# Altium footprint library HDR2.54-F-44P.PcbLib: 1 footprints
Each footprint in its own frame and in the unit in brackets; x right, y up, seen from the top. Pads: shape width x height; smd on the part's side, far side on the other; paste and mask are expansions set on the pad; w line width, h text height; cw(c..) or ccw(c..) is an arc to the next point about the centre after c.
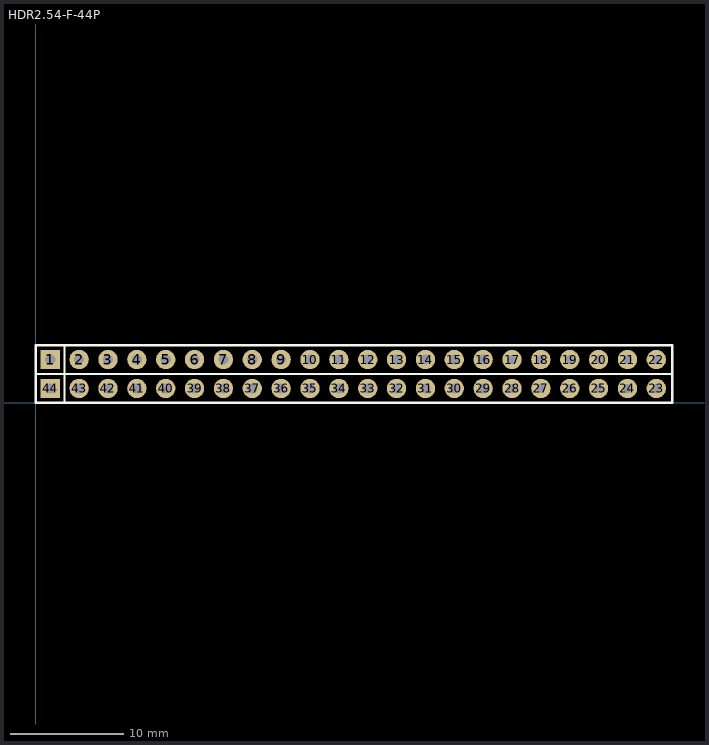
[diagram p0: the footprint, top view; thin cyan lines are the x and y axes]

## HDR2.54-F-44P [mm]
pads (44):
  rect 1.7x1.7 hole 0.9: 1(1.27,3.81) 44(1.27,1.27)
  round 1.7 hole 0.9: 2(3.81,3.81) 3(6.35,3.81) 4(8.89,3.81) 5(11.43,3.81) 6(13.97,3.81) 7(16.51,3.81) 8(19.05,3.81) 9(21.59,3.81) 10(24.13,3.81) 11(26.67,3.81) 12(29.21,3.81) 13(31.75,3.81) 14(34.29,3.81) 15(36.83,3.81) 16(39.37,3.81) 29(39.37,1.27) 30(36.83,1.27) 31(34.29,1.27) 32(31.75,1.27) 33(29.21,1.27) 34(26.67,1.27) 35(24.13,1.27) 36(21.59,1.27) 37(19.05,1.27) 38(16.51,1.27) 39(13.97,1.27) 40(11.43,1.27) 41(8.89,1.27) 42(6.35,1.27) 43(3.81,1.27)
  round 1.7 hole 0.762: 17(41.91,3.81) 18(44.45,3.81) 19(46.99,3.81) 20(49.53,3.81) 21(52.07,3.81) 22(54.61,3.81) 23(54.61,1.27) 24(52.07,1.27) 25(49.53,1.27) 26(46.99,1.27) 27(44.45,1.27) 28(41.91,1.27)
Top Overlay:
  lines w0.2: 2.52,0.02 2.52,2.52 ; 2.52,2.56 2.52,5.06 ; 56.007,2.54 1.905,2.54 0,2.54 0,5.08 1.905,5.08 56.007,5.08 56.007,2.54 ; 56.007,2.54 56.007,0 0,0 0,2.542 56.005,2.542 56.007,2.54
3D body "HDR2.54-1P_M.STEP": height 8.5, standoff -3, extent 10.16,2.54 12.7,5.08
3D body "HDR2.54-1P_M.STEP": height 8.5, standoff -3, extent 7.62,2.54 10.16,5.08
3D body "HDR2.54-1P_M.STEP": height 8.5, standoff -3, extent 5.08,2.54 7.62,5.08
3D body "HDR2.54-1P_M.STEP": height 8.5, standoff -3, extent 2.54,2.54 5.08,5.08
3D body "HDR2.54-1P_M.STEP": height 8.5, standoff -3, extent 0,2.54 2.54,5.08
3D body "HDR2.54-1P_M.STEP": height 8.5, standoff -3, extent 22.86,2.54 25.4,5.08
3D body "HDR2.54-1P_M.STEP": height 8.5, standoff -3, extent 20.32,2.54 22.86,5.08
3D body "HDR2.54-1P_M.STEP": height 8.5, standoff -3, extent 17.78,2.54 20.32,5.08
3D body "HDR2.54-1P_M.STEP": height 8.5, standoff -3, extent 15.24,2.54 17.78,5.08
3D body "HDR2.54-1P_M.STEP": height 8.5, standoff -3, extent 12.7,2.54 15.24,5.08
3D body "HDR2.54-1P_M.STEP": height 8.5, standoff -3, extent 35.56,2.54 38.1,5.08
3D body "HDR2.54-1P_M.STEP": height 8.5, standoff -3, extent 33.02,2.54 35.56,5.08
3D body "HDR2.54-1P_M.STEP": height 8.5, standoff -3, extent 30.48,2.54 33.02,5.08
3D body "HDR2.54-1P_M.STEP": height 8.5, standoff -3, extent 27.94,2.54 30.48,5.08
3D body "HDR2.54-1P_M.STEP": height 8.5, standoff -3, extent 25.4,2.54 27.94,5.08
3D body "HDR2.54-1P_M.STEP": height 8.5, standoff -3, extent 48.26,2.54 50.8,5.08
3D body "HDR2.54-1P_M.STEP": height 8.5, standoff -3, extent 45.72,2.54 48.26,5.08
3D body "HDR2.54-1P_M.STEP": height 8.5, standoff -3, extent 43.18,2.54 45.72,5.08
3D body "HDR2.54-1P_M.STEP": height 8.5, standoff -3, extent 40.64,2.54 43.18,5.08
3D body "HDR2.54-1P_M.STEP": height 8.5, standoff -3, extent 38.1,2.54 40.64,5.08
3D body "HDR2.54-1P_M.STEP": height 8.5, standoff -3, extent 10.16,0 12.7,2.54
3D body "HDR2.54-1P_M.STEP": height 8.5, standoff -3, extent 7.62,0 10.16,2.54
3D body "HDR2.54-1P_M.STEP": height 8.5, standoff -3, extent 5.08,0 7.62,2.54
3D body "HDR2.54-1P_M.STEP": height 8.5, standoff -3, extent 2.54,0 5.08,2.54
3D body "HDR2.54-1P_M.STEP": height 8.5, standoff -3, extent 0,0 2.54,2.54
3D body "HDR2.54-1P_M.STEP": height 8.5, standoff -3, extent 22.86,0 25.4,2.54
3D body "HDR2.54-1P_M.STEP": height 8.5, standoff -3, extent 20.32,0 22.86,2.54
3D body "HDR2.54-1P_M.STEP": height 8.5, standoff -3, extent 17.78,0 20.32,2.54
3D body "HDR2.54-1P_M.STEP": height 8.5, standoff -3, extent 15.24,0 17.78,2.54
3D body "HDR2.54-1P_M.STEP": height 8.5, standoff -3, extent 12.7,0 15.24,2.54
3D body "HDR2.54-1P_M.STEP": height 8.5, standoff -3, extent 35.56,0 38.1,2.54
3D body "HDR2.54-1P_M.STEP": height 8.5, standoff -3, extent 33.02,0 35.56,2.54
3D body "HDR2.54-1P_M.STEP": height 8.5, standoff -3, extent 30.48,0 33.02,2.54
3D body "HDR2.54-1P_M.STEP": height 8.5, standoff -3, extent 27.94,0 30.48,2.54
3D body "HDR2.54-1P_M.STEP": height 8.5, standoff -3, extent 25.4,0 27.94,2.54
3D body "HDR2.54-1P_M.STEP": height 8.5, standoff -3, extent 48.26,0 50.8,2.54
3D body "HDR2.54-1P_M.STEP": height 8.5, standoff -3, extent 45.72,0 48.26,2.54
3D body "HDR2.54-1P_M.STEP": height 8.5, standoff -3, extent 43.18,0 45.72,2.54
3D body "HDR2.54-1P_M.STEP": height 8.5, standoff -3, extent 40.64,0 43.18,2.54
3D body "HDR2.54-1P_M.STEP": height 8.5, standoff -3, extent 38.1,0 40.64,2.54
3D body "HDR2.54-1P_M.STEP": height 8.5, standoff -3, extent 53.34,2.54 55.88,5.08
3D body "HDR2.54-1P_M.STEP": height 8.5, standoff -3, extent 50.8,2.54 53.34,5.08
3D body "HDR2.54-1P_M.STEP": height 8.5, standoff -3, extent 53.34,0 55.88,2.54
3D body "HDR2.54-1P_M.STEP": height 8.5, standoff -3, extent 50.8,0 53.34,2.54